# Altium schematic symbol library STM32F103T6U7A.SchLib: 1 symbol
Pins are listed as number, name and electrical type; pins without a type are passive.

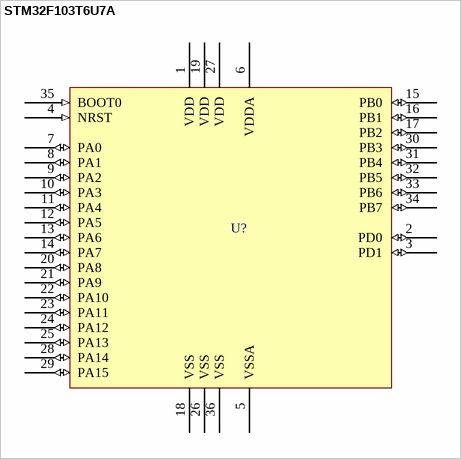
[diagram p0: symbol STM32F103T6U7A]

## STM32F103T6U7A
designator U?  (value not drawn)
Mainstream Performance line, Arm Cortex-M3 MCU with 32 Kbytes of Flash memory, 72 MHz CPU, motor control, USB and CAN
pins: 1 VDD (power), 2 PD0 (io), 3 PD1 (io), 4 NRST (in), 5 VSSA (power), 6 VDDA (power), 7 PA0 (io), 8 PA1 (io), 9 PA2 (io), 10 PA3 (io), 11 PA4 (io), 12 PA5 (io), 13 PA6 (io), 14 PA7 (io), 15 PB0 (io), 16 PB1 (io), 17 PB2 (io), 18 VSS (power), 19 VDD (power), 20 PA8 (io), 21 PA9 (io), 22 PA10 (io), 23 PA11 (io), 24 PA12 (io), 25 PA13 (io), 26 VSS (power), 27 VDD (power), 28 PA14 (io), 29 PA15 (io), 30 PB3 (io), 31 PB4 (io), 32 PB5 (io), 33 PB6 (io), 34 PB7 (io), 35 BOOT0 (in), 36 VSS (power)